# EAGLE library part SN74LVC139AD (library PatternAgents-TI)
DUAL 2-LINE TO 4-LINE DECODER/DEMULTIPLEXER
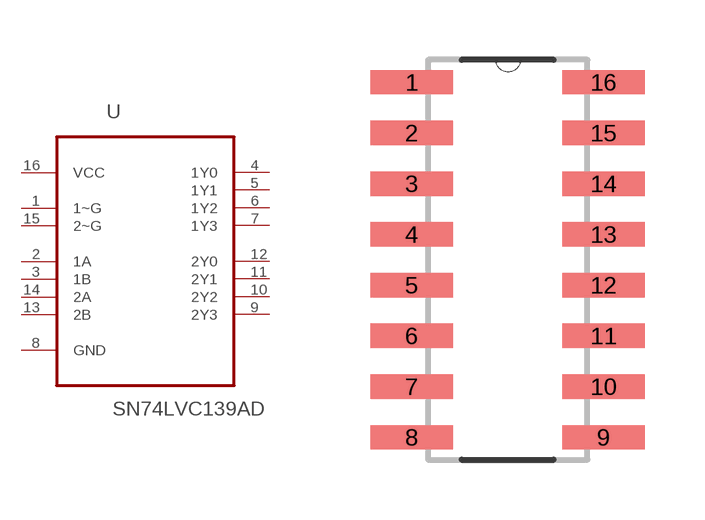
[diagram p13: symbol with the pads of SOIC127P600X175-16N; footprint SOIC127P600X175-16N]

Designator prefix U

## SN74LVC139AD (MPN: SN74LVC139AD; OC_FARNELL: 1470797; OC_NEWARK: 35C2061; PACKAGE: SOIC-16; SUPPLIER: Texas Instruments)  [SOIC127P600X175-16N]
1  1~G  in
2  1A  in
3  1B  in
4  1Y0  out
5  1Y1  out
6  1Y2  out
7  1Y3  out
8  GND  pas
9  2Y3  out
10  2Y2  out
11  2Y1  out
12  2Y0  out
13  2B  in
14  2A  in
15  2~G  in
16  VCC  pwr

## Footprint SOIC127P600X175-16N (pad centres in mm)
smd 2.057 x 0.61: 1 -4.801,8.89; 2 -4.801,7.62; 3 -4.801,6.35; 4 -4.801,5.08; 5 -4.801,3.81; 6 -4.801,2.54; 7 -4.801,1.27; 8 -4.801,0; 9 0,0; 10 0,1.27; 11 0,2.54; 12 0,3.81; 13 0,5.08; 14 0,6.35; 15 0,7.62; 16 0,8.89